# Altium footprint library Motor.PcbLib: 19 footprints (part 2 of 2)
Each footprint in its own frame and in the unit in brackets; x right, y up, seen from the top. Pads: shape width x height; smd on the part's side, far side on the other; paste and mask are expansions set on the pad; w line width, h text height; cw(c..) or ccw(c..) is an arc to the next point about the centre after c.
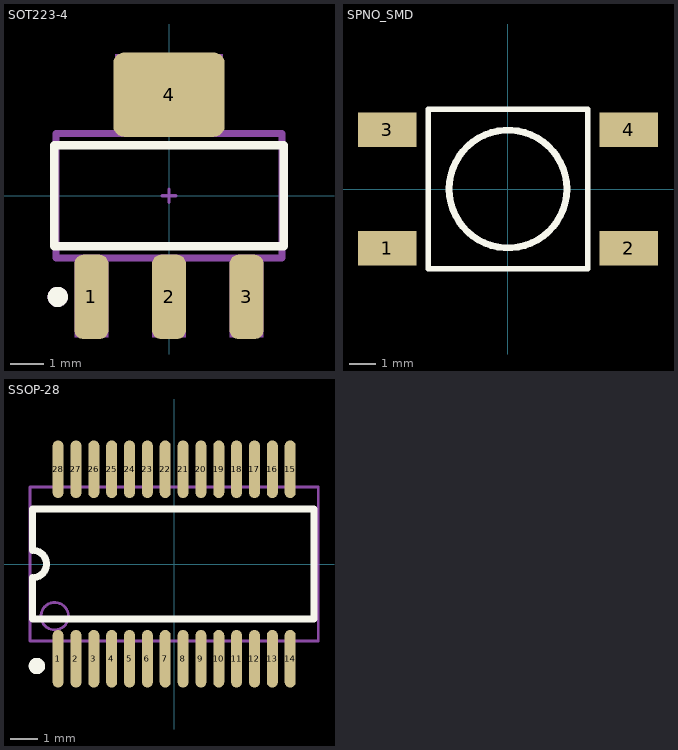
[diagram p1: the footprints below, top view; thin cyan lines are the x and y axes]

## SOT223-4 [mm] "SOT223, 4-Leads, Body 6.5x3.5mm, Pitch 2.3mm, Lead Span 7mm, IPC High Density"
height 1.7
pads (4):
  rrect50% 1x2.5 smd mask+0.08: 1(-2.3,-3) 2(0,-3) 3(2.3,-3)
  rrect25% 3.3x2.5 smd mask+0.08: 4(0,3)
Top Overlay:
  circle w0.3: c-3.3,-3 r0.15
  lines w0.254: -3.4,-1.5 3.4,-1.5 3.4,1.5 -3.4,1.5 -3.4,-1.5
Mechanical 7:
  circle w0.3: c-3.3,-3 r0.15
  region: 1.6,1.8 1.6,4.2 -1.6,4.2 -1.6,1.8
  region: 2.8,-4.2 2.8,-1.8 1.8,-1.8 1.8,-4.2
  region: 0.5,-4.2 0.5,-1.8 -0.5,-1.8 -0.5,-4.2
  region: -1.8,-4.2 -1.8,-1.8 -2.8,-1.8 -2.8,-4.2
  lines w0.1: -0.2,0 0.2,0 ; 0,-0.2 0,0.2
  lines w0.203: -3.4,-1.5 3.4,-1.5 3.4,1.5 -3.4,1.5 -3.4,-1.5
  text ".Comment" at -3.2,-1.1 h0.8
  text ".Designator" at -3.2,0.7 h0.8
Mechanical 13:
  lines w0.203: -3.35,-1.85 3.35,-1.85 3.35,1.85 -3.35,1.85 -3.35,-1.85
3D body: height 1.7, standoff 0, extent -3.353,-1.854 3.353,1.854
3D body: height 0.71, standoff 0, extent -1.499,2.464 1.499,2.667
3D body: height 0.71, standoff 0.61, extent -1.499,1.854 1.499,2.565
3D body: height 0.1, standoff 0, extent -1.499,2.565 1.499,3.48
3D body: height 0.1, standoff 0, extent -2.681,-3.48 -1.919,-2.565
3D body: height 0.71, standoff 0.61, extent -2.681,-2.565 -1.919,-1.854
3D body: height 0.71, standoff 0, extent -2.681,-2.667 -1.919,-2.464
3D body: height 0.1, standoff 0, extent 1.919,-3.48 2.681,-2.565
3D body: height 0.71, standoff 0.61, extent 1.919,-2.565 2.681,-1.854
3D body: height 0.71, standoff 0, extent 1.919,-2.667 2.681,-2.464
3D body: height 0.1, standoff 0, extent -0.381,-3.48 0.381,-2.565
3D body: height 0.71, standoff 0.61, extent -0.381,-2.565 0.381,-1.854
3D body: height 0.71, standoff 0, extent -0.381,-2.667 0.381,-2.464

## SPNO_SMD [mm] "SP NO SMD Tactile switch"
height 12
pads (4):
  rect 2.2x1.3 smd: 1(-4.55,-2.225) 2(4.55,-2.225) 3(-4.55,2.225) 4(4.55,2.225)
Top Overlay:
  circle w0.254: c0,0 r2.218
  lines w0.2: -3,-3 3,-3 3,3 -3,3 -3,-3
3D body: height 4.32, standoff 0.02, extent -4.25,-3.3 4.25,3.3

## SSOP-28 [mm]
pads (28):
  oval 0.4x2.1 smd mask+0.051: 1(-4.225,-3.45) 2(-3.575,-3.45) 3(-2.925,-3.45) 4(-2.275,-3.45) 5(-1.625,-3.45) 6(-0.975,-3.45) 7(-0.325,-3.45) 8(0.325,-3.45) 9(0.975,-3.45) 10(1.625,-3.45) 11(2.275,-3.45) 12(2.925,-3.45) 13(3.575,-3.45) 14(4.225,-3.45) 15(4.225,3.45) 16(3.575,3.45) 17(2.925,3.45) 18(2.275,3.45) 19(1.625,3.45) 20(0.975,3.45) 21(0.325,3.45) 22(-0.325,3.45) 23(-0.975,3.45) 24(-1.625,3.45) 25(-2.275,3.45) 26(-2.925,3.45) 27(-3.575,3.45) 28(-4.225,3.45)
Top Overlay:
  circle w0.3: c-4.997,-3.715 r0.15
  lines w0.254: -5.15,-2 5.1,-2 5.1,2 -5.15,2 -5.15,0.5 cw(c-5.15,0) -5.15,-0.5 -5.15,-2
Mechanical 13:
  circle w0.1: c-4.35,-1.9 r0.5
  lines w0.1: -5.25,-2.8 5.25,-2.8 5.25,2.8 -5.25,2.8 -5.25,-2.8
3D body: height 2, standoff 0.3, extent -5.156,-2.007 5.105,2.007
3D body: height 2.11, standoff 0.5, extent -4.65,-1.57 -3.939,-0.858
3D body: height 1.2, standoff 1, extent -4.375,2.005 -4.075,2.455
3D body: height 1.2, standoff 0, extent -4.375,2.455 -4.075,2.755
3D body: height 0.2, standoff 0, extent -4.375,2.455 -4.075,3.255
3D body: height 0.2, standoff 0, extent -3.725,2.455 -3.425,3.255
3D body: height 1.2, standoff 0, extent -3.725,2.455 -3.425,2.755
3D body: height 1.2, standoff 1, extent -3.725,2.005 -3.425,2.455
3D body: height 0.2, standoff 0, extent -3.075,2.455 -2.775,3.255
3D body: height 1.2, standoff 0, extent -3.075,2.455 -2.775,2.755
3D body: height 1.2, standoff 1, extent -3.075,2.005 -2.775,2.455
3D body: height 0.2, standoff 0, extent -2.425,2.455 -2.125,3.255
3D body: height 1.2, standoff 0, extent -2.425,2.455 -2.125,2.755
3D body: height 1.2, standoff 1, extent -2.425,2.005 -2.125,2.455
3D body: height 0.2, standoff 0, extent -1.775,2.455 -1.475,3.255
3D body: height 1.2, standoff 0, extent -1.775,2.455 -1.475,2.755
3D body: height 1.2, standoff 1, extent -1.775,2.005 -1.475,2.455
3D body: height 0.2, standoff 0, extent -1.125,2.455 -0.825,3.255
3D body: height 1.2, standoff 0, extent -1.125,2.455 -0.825,2.755
3D body: height 1.2, standoff 1, extent -1.125,2.005 -0.825,2.455
3D body: height 0.2, standoff 0, extent -0.475,2.455 -0.175,3.255
3D body: height 1.2, standoff 0, extent -0.475,2.455 -0.175,2.755
3D body: height 1.2, standoff 1, extent -0.475,2.005 -0.175,2.455
3D body: height 0.2, standoff 0, extent 0.175,2.455 0.475,3.255
3D body: height 1.2, standoff 0, extent 0.175,2.455 0.475,2.755
3D body: height 1.2, standoff 1, extent 0.175,2.005 0.475,2.455
3D body: height 0.2, standoff 0, extent 0.825,2.455 1.125,3.255
3D body: height 1.2, standoff 0, extent 0.825,2.455 1.125,2.755
3D body: height 1.2, standoff 1, extent 0.825,2.005 1.125,2.455
3D body: height 0.2, standoff 0, extent 1.475,2.455 1.775,3.255
3D body: height 1.2, standoff 0, extent 1.475,2.455 1.775,2.755
3D body: height 1.2, standoff 1, extent 1.475,2.005 1.775,2.455
3D body: height 0.2, standoff 0, extent 2.125,2.455 2.425,3.255
3D body: height 1.2, standoff 0, extent 2.125,2.455 2.425,2.755
3D body: height 1.2, standoff 1, extent 2.125,2.005 2.425,2.455
3D body: height 0.2, standoff 0, extent 2.775,2.455 3.075,3.255
3D body: height 1.2, standoff 0, extent 2.775,2.455 3.075,2.755
3D body: height 1.2, standoff 1, extent 2.775,2.005 3.075,2.455
3D body: height 0.2, standoff 0, extent 3.425,2.455 3.725,3.255
3D body: height 1.2, standoff 0, extent 3.425,2.455 3.725,2.755
3D body: height 1.2, standoff 1, extent 3.425,2.005 3.725,2.455
3D body: height 0.2, standoff 0, extent 4.075,2.455 4.375,3.255
3D body: height 1.2, standoff 0, extent 4.075,2.455 4.375,2.755
3D body: height 1.2, standoff 1, extent 4.075,2.005 4.375,2.455
3D body: height 1.2, standoff 1, extent 4.075,-2.455 4.375,-2.005
3D body: height 1.2, standoff 0, extent 4.075,-2.755 4.375,-2.455
3D body: height 0.2, standoff 0, extent 4.075,-3.255 4.375,-2.455
3D body: height 1.2, standoff 1, extent 3.425,-2.455 3.725,-2.005
3D body: height 1.2, standoff 0, extent 3.425,-2.755 3.725,-2.455
3D body: height 0.2, standoff 0, extent 3.425,-3.255 3.725,-2.455
3D body: height 1.2, standoff 1, extent 2.775,-2.455 3.075,-2.005
3D body: height 1.2, standoff 0, extent 2.775,-2.755 3.075,-2.455
3D body: height 0.2, standoff 0, extent 2.775,-3.255 3.075,-2.455
3D body: height 1.2, standoff 1, extent 2.125,-2.455 2.425,-2.005
3D body: height 1.2, standoff 0, extent 2.125,-2.755 2.425,-2.455
3D body: height 0.2, standoff 0, extent 2.125,-3.255 2.425,-2.455
3D body: height 1.2, standoff 1, extent 1.475,-2.455 1.775,-2.005
3D body: height 1.2, standoff 0, extent 1.475,-2.755 1.775,-2.455
3D body: height 0.2, standoff 0, extent 1.475,-3.255 1.775,-2.455
3D body: height 1.2, standoff 1, extent 0.825,-2.455 1.125,-2.005
3D body: height 1.2, standoff 0, extent 0.825,-2.755 1.125,-2.455
3D body: height 0.2, standoff 0, extent 0.825,-3.255 1.125,-2.455
3D body: height 1.2, standoff 1, extent 0.175,-2.455 0.475,-2.005
3D body: height 1.2, standoff 0, extent 0.175,-2.755 0.475,-2.455
3D body: height 0.2, standoff 0, extent 0.175,-3.255 0.475,-2.455
3D body: height 1.2, standoff 1, extent -0.475,-2.455 -0.175,-2.005
3D body: height 1.2, standoff 0, extent -0.475,-2.755 -0.175,-2.455
3D body: height 0.2, standoff 0, extent -0.475,-3.255 -0.175,-2.455
3D body: height 1.2, standoff 1, extent -1.125,-2.455 -0.825,-2.005
3D body: height 1.2, standoff 0, extent -1.125,-2.755 -0.825,-2.455
3D body: height 0.2, standoff 0, extent -1.125,-3.255 -0.825,-2.455
3D body: height 1.2, standoff 1, extent -1.775,-2.455 -1.475,-2.005
3D body: height 1.2, standoff 0, extent -1.775,-2.755 -1.475,-2.455
3D body: height 0.2, standoff 0, extent -1.775,-3.255 -1.475,-2.455
3D body: height 1.2, standoff 1, extent -2.425,-2.455 -2.125,-2.005
3D body: height 1.2, standoff 0, extent -2.425,-2.755 -2.125,-2.455
3D body: height 0.2, standoff 0, extent -2.425,-3.255 -2.125,-2.455
3D body: height 1.2, standoff 1, extent -3.075,-2.455 -2.775,-2.005
3D body: height 1.2, standoff 0, extent -3.075,-2.755 -2.775,-2.455
3D body: height 0.2, standoff 0, extent -3.075,-3.255 -2.775,-2.455
3D body: height 1.2, standoff 1, extent -3.725,-2.455 -3.425,-2.005
3D body: height 1.2, standoff 0, extent -3.725,-2.755 -3.425,-2.455
3D body: height 0.2, standoff 0, extent -3.725,-3.255 -3.425,-2.455
3D body: height 0.2, standoff 0, extent -4.375,-3.255 -4.075,-2.455
3D body: height 1.2, standoff 0, extent -4.375,-2.755 -4.075,-2.455
3D body: height 1.2, standoff 1, extent -4.375,-2.455 -4.075,-2.005